# Altium footprint library CONN SLW-102-01-x-S.PcbLib: 1 footprints
Each footprint in its own frame and in the unit in brackets; x right, y up, seen from the top. Pads: shape width x height; smd on the part's side, far side on the other; paste and mask are expansions set on the pad; w line width, h text height; cw(c..) or ccw(c..) is an arc to the next point about the centre after c.
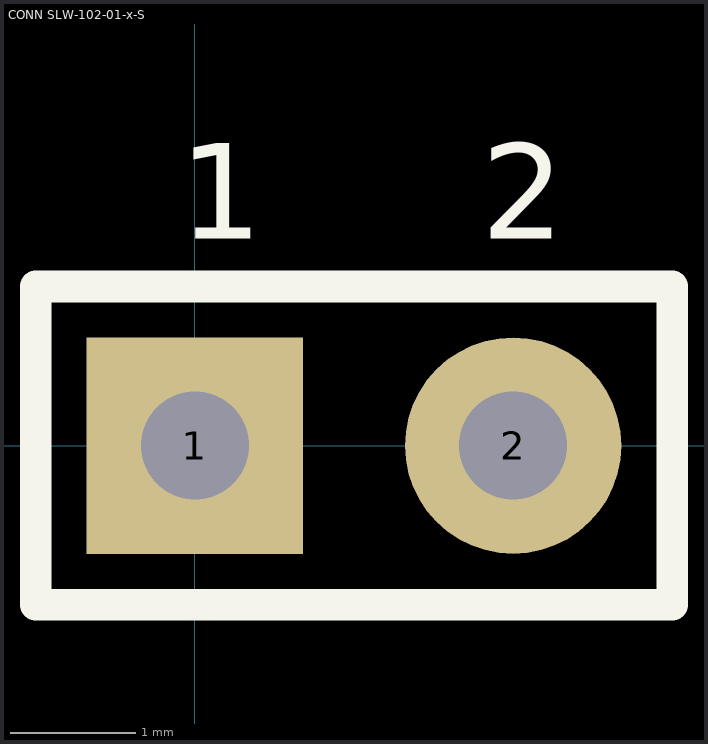
[diagram p0: the footprint, top view; thin cyan lines are the x and y axes]

## CONN SLW-102-01-x-S [mil]
pads (2):
  rect 68x68 hole 34: 1(0,0)
  round 68 hole 34: 2(100,0)
Top Overlay:
  lines w10: -50,-50 150,-50 150,50 -50,50 -50,-50
  text "1" at -5,65 h30
  text "2" at 90,65 h30
3D body: height 180.6, standoff -114.4, extent -50.01,-50 149.99,50